# Altium schematic symbol library 1985917.SchLib: 1 symbol
Pins are listed as number, name and electrical type; pins without a type are passive.

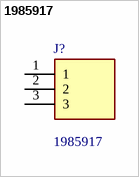
[diagram p0: symbol 1985917]

## 1985917
designator J?
PCB Terminal Block 1985917; Manufacturer_Name: Phoenix Contact; Geometry.Height: 13.95mm; TTI Part Number: *; TTI Price/Stock: *; Manufacturer_Part_Number: 1985917; Datasheet Link: https://media.digikey.com/pdf/Data%20Sheets/Phoenix%20Contact%20PDFs/Multi-Postion%20PCTerminal%20Blocks.pdf
footprint 1985917
pins: 1, 2, 3